# Altium schematic symbol library LFCSP_48_Breakout.SchLib: 3 symbols
Pins are listed as number, name and electrical type; pins without a type are passive.

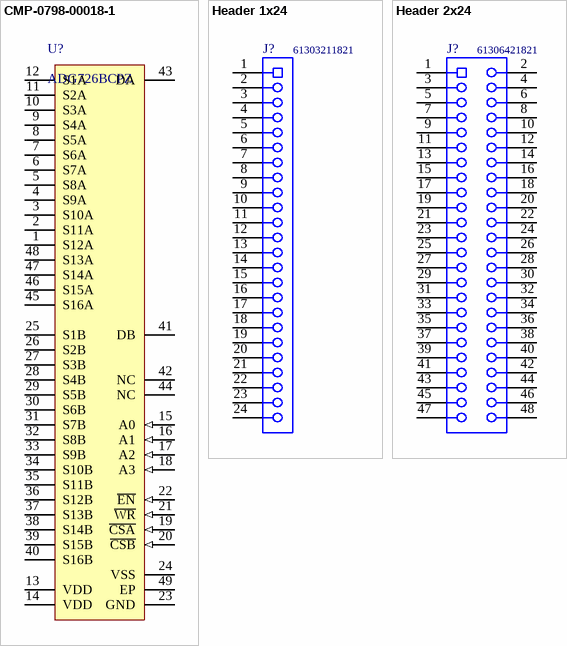
[diagram p0: symbols CMP-0798-00018-1 to Header 2x24]

## CMP-0798-00018-1
designator U?, comment ADG726BCPZ
1.8 to 5.5 V / +/-2.5 V, 4 Ohm, 16-Channel Analog Multiplexer, -40 to 85 degC, 48-pin QFN (CP-48-1), Tray; Manufacturer: Analog Devices; Ron (ohms): 4; Supply V Guar Performance: Dual_(+/-2.5V), Single_(+3V), Single_(+5V); Bandwidth (Hz): 34M; Max Analog Signal Range: Vss to Vdd; t transition (s): 23n; PackageDescription: 48-Pin Lead Frame Chip Scale Package, Body 7 x 7 mm, Pitch 0.5 mm; ComponentLink3URL: http:/www.analog.com/static/imported-files/packages/PKG_PDF/LFCSP(CP)/CP-48/CP_48_1.pdf; Code_JEDEC: MO-220-VKKD-2; ComponentLink2Description: Datasheet; PackageReference: CP-48-1; ComponentLink2URL: http://www.analog.com/static/imported-files/data_sheets/ADG726_732.pdf; DatasheetVersion: Rev. 0; PartNumber: ADG726BCPZ; ComponentLink3Description: Package Specification; Packing: Tray; ComponentLink1URL: http://www.analog.com/en/index.html; ComponentLink1Description: Manufacturer URL; Mounting Technology: Surface Mount
footprint ADI-CP-48-1_M (QFN, 48-Leads, Body 7x7mm, Pitch 0.5mm, IPC Low Density)
pins: 1 S12A "Source Terminal. May be an input or output.", 2 S11A "Source Terminal. May be an input or output.", 3 S10A "Source Terminal. May be an input or output.", 4 S9A "Source Terminal. May be an input or output.", 5 S8A "Source Terminal. May be an input or output.", 6 S7A "Source Terminal. May be an input or output.", 7 S6A "Source Terminal. May be an input or output.", 8 S5A "Source Terminal. May be an input or output.", 9 S4A "Source Terminal. May be an input or output.", 10 S3A "Source Terminal. May be an input or output.", 11 S2A "Source Terminal. May be an input or output.", 12 S1A "Source Terminal. May be an input or output.", 13 VDD (power) "Most Positive Power Supply Potential", 14 VDD (power) "Most Positive Power Supply Potential", 15 A0 (in), 16 A1 (in), 17 A2 (in), 18 A3 (in), 19 ~{CSA} (in), 20 ~{CSB} (in), 21 ~{WR} (in), 22 ~{EN} (in), 23 GND (power) "Ground (0 V) Reference", 24 VSS (power) "Most Negative Power Supply in a Dual-Supply Application. In single-supply applications, connect to GND.", 25 S1B "Source Terminal. May be an input or output.", 26 S2B "Source Terminal. May be an input or output.", 27 S3B "Source Terminal. May be an input or output.", 28 S4B "Source Terminal. May be an input or output.", 29 S5B "Source Terminal. May be an input or output.", 30 S6B "Source Terminal. May be an input or output.", 31 S7B "Source Terminal. May be an input or output.", 32 S8B "Source Terminal. May be an input or output.", 33 S9B "Source Terminal. May be an input or output.", 34 S10B "Source Terminal. May be an input or output.", 35 S11B "Source Terminal. May be an input or output.", 36 S12B "Source Terminal. May be an input or output.", 37 S13B "Source Terminal. May be an input or output.", 38 S14B "Source Terminal. May be an input or output.", 39 S15B "Source Terminal. May be an input or output.", 40 S16B "Source Terminal. May be an input or output.", 41 DB "Drain Terminal. May be an input or output.", 42 NC "No connect", 43 DA "Drain Terminal. May be an input or output.", 44 NC "No connect", 45 S16A "Source Terminal. May be an input or output.", 46 S15A "Source Terminal. May be an input or output.", 47 S14A "Source Terminal. May be an input or output.", 48 S13A "Source Terminal. May be an input or output.", 49 EP

## Header 1x24
designator J?, comment 61303211821
THT Vertical Socket Header WR-PHD, Pitch 2.54 mm, Single Row, 32 pins; Manufacturer: Wurth Elektronik; Rated Current: 3A; Working Voltage: 250VAC; Withstanding Voltage: 500VAC; Gender: Female; Contact Resistance: 20mOhm; Pitch: 2.54mm; Pin Number: 32; Operating Temperature: -40to125degC; Manufacturer URL: http://www.we-online.de; Package Reference: 61303211821; Datasheet URL: https://katalog.we-online.de/em/datasheet/6130xx11821.pdf; Publisher: WurthElektronik; Orientation: Vertical; Mounting Technology: THT; Part Number: 61303211821; Row Number: Single; Packaging: Tray
footprint 61303211821 (Socket Header, Pitch 2.54 mm, THT, Vertical, single row, 32p)
pins: 1, 2, 3, 4, 5, 6, 7, 8, 9, 10, 11, 12, 13, 14, 15, 16, 17, 18, 19, 20, 21, 22, 23, 24

## Header 2x24
designator J?, comment 61306421821
THT Vertical Socket Header WR-PHD, Pitch 2.54 mm, Dual Row, 48 pins; Manufacturer: Wurth Elektronik; Contact Resistance: 20mOhm; Working Voltage: 250VAC; Rated Current: 3A; Pitch: 2.54mm; Gender: Female; Withstanding Voltage: 500VAC; Pin Number: 64; Row Number: Dual; Mounting Technology: THT; Orientation: Vertical; Datasheet URL: https://katalog.we-online.de/em/datasheet/6130xx21821.pdf; Part Number: 61306421821; Manufacturer URL: http://www.we-online.de; Package Reference: 61306421821; Publisher: WurthElektronik; Operating Temperature: -40to125degC; Packaging: Tray
footprint 61306421821 (Socket Header, Pitch 2.54 mm, THT, Vertical, dual row, 64p)
pins: 1, 2, 3, 4, 5, 6, 7, 8, 9, 10, 11, 12, 13, 14, 15, 16, 17, 18, 19, 20, 21, 22, 23, 24, 25, 26, 27, 28, 29, 30, 31, 32, 33, 34, 35, 36, 37, 38, 39, 40, 41, 42, 43, 44, 45, 46, 47, 48